# Altium schematic symbol library Schlib1.SchLib: 22 symbols
Pins are listed as number, name and electrical type; pins without a type are passive.

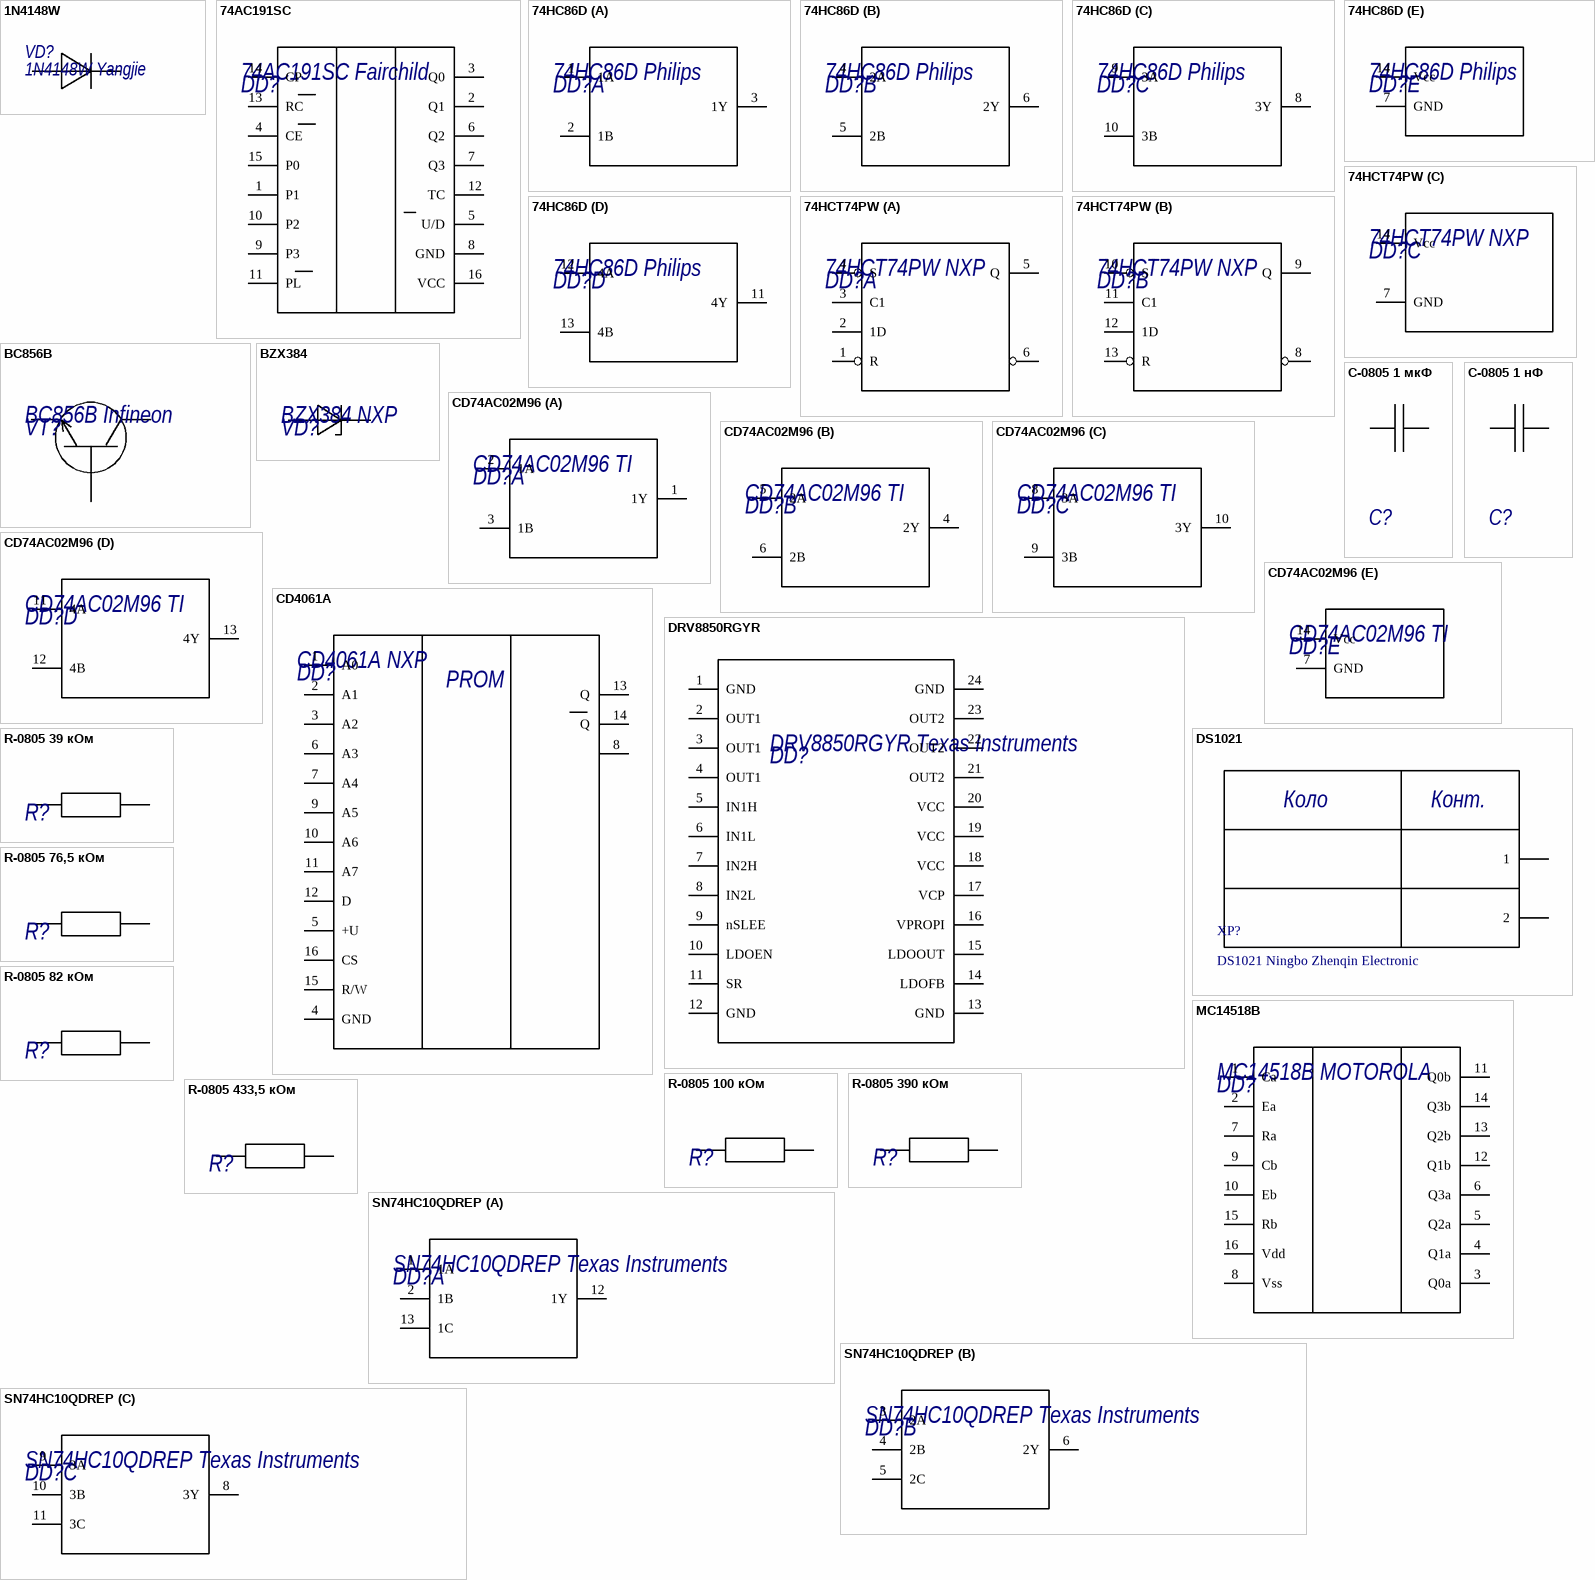
[diagram p0: symbols 1N4148W to SN74HC10QDREP]

## 1N4148W
designator VD?, comment 1N4148W Yangjie
1N4148W; Manufacturer: Yangjie; Name: 1N4148W
footprint SOD-123 (SODFL, 2-Leads, Body 1,55x3,60mm, IPC Medium Density)
pins: 1, 2

## 74AC191SC
designator DD?, comment 74AC191SC Fairchild
Counter; Name: 74AC191SC; Manufacturer: Fairchild
footprint SOIC-16 (SOIC, 16-Leads, Body 10,30x7,50mm, Pitch 1,27mm, IPC Medium Density)
pins: 1 P1, 2 Q1, 3 Q0, 4 CE, 5 U/D, 6 Q2, 7 Q3, 8 GND, 9 P3, 10 P2, 11 PL, 12 TC, 13 RC, 14 CP, 15 P0, 16 VCC

## 74HC86D
designator DD?, comment 74HC86D Philips
OR; Name: 74HC86D; Manufacturer: Philips
footprint SOIC-14 (SOIC, 14-Leads, Body 8,65x3,90mm, Pitch 1,27mm, IPC Medium Density)
part A pins: 1 1A, 2 1B, 3 1Y
part B pins: 4 2A, 5 2B, 6 2Y
part C pins: 8 3Y, 9 3A, 10 3B
part D pins: 11 4Y, 12 4A, 13 4B
part E pins: 7 GND, 14 Vcc

## 74HCT74PW
designator DD?, comment 74HCT74PW NXP
DUAL D FF POSEDG TRIG; Name: 74HCT74PW; Manufacturer: NXP
footprint TSSOP-14 (TSOP, 14-Leads, Body 5,00x4,40mm, Pitch 0,65mm, IPC Medium Density)
part A pins: 1 R, 2 1D, 3 C1, 4 S, 5 Q, 6 Q
part B pins: 8 Q, 9 Q, 10 S, 11 C1, 12 1D, 13 R
part C pins: 7 GND, 14 Vcc

## BC856B
designator VT?, comment BC856B Infineon
Name: BC856B; Manufacturer: Infineon
footprint SOT-23 (SOT23, 3-Leads, Body 2,90x2,30mm, Pitch 0,95mm, IPC Medium Density)
pins: 1, 2, 3

## BZX384
designator VD?, comment BZX384 NXP
Name: BZX384; Manufacturer: NXP
footprint SOD-323 (SODFL, 2-Leads, Body 1,25x2,50mm, IPC Medium Density)
pins: 1, 2

## C-0805 1 мкФ
designator C?, comment С-0805 50 В 1 мкФ 10% X7R Hitano  (value not drawn)
Value: 1 мкФ; Voltage: 50 В; Package: С-0805; Temp_Coef: X7R; Tolerance: 10%; Manufacturer: Hitano
footprint 0805
pins: 1, 2

## C-0805 1 нФ
designator C?, comment С-0805 50 В 1 нФ 5% NP0 Hitano  (value not drawn)
Value: 1 нФ; Voltage: 50 В; Package: С-0805; Temp_Coef: NP0; Tolerance: 5%; Manufacturer: Hitano
footprint 0805
pins: 1, 2

## CD74AC02M96
designator DD?, comment CD74AC02M96 TI
2-INPUT NOR GATE; Name: CD74AC02M96; Manufacturer: TI
footprint SOIC-14 (SOIC, 14-Leads, Body 8,65x3,90mm, Pitch 1,27mm, IPC Medium Density)
part A pins: 1 1Y, 2 1A, 3 1B
part B pins: 4 2Y, 5 2A, 6 2B
part C pins: 8 3A, 9 3B, 10 3Y
part D pins: 11 4A, 12 4B, 13 4Y
part E pins: 7 GND, 14 Vcc

## CD4061A
designator DD?, comment CD4061A NXP
Name: CD4061A; Manufacturer: NXP
footprint DIP16
pins: 1 A0, 2 A1, 3 A2, 4 GND, 5 +U, 6 A3, 7 A4, 8, 9 A5, 10 A6, 11 A7, 12 D, 13 Q, 14 Q, 15 R/W, 16 CS
text: PROM

## DRV8850RGYR
designator DD?, comment DRV8850RGYR Texas Instruments
Name: DRV8850RGYR; Manufacturer: Texas Instruments
pins: 1 GND, 2 OUT1, 3 OUT1, 4 OUT1, 5 IN1H, 6 IN1L, 7 IN2H, 8 IN2L, 9 nSLEE, 10 LDOEN, 11 SR, 12 GND, 13 GND, 14 LDOFB, 15 LDOOUT, 16 VPROPI, 17 VCP, 18 VCC, 19 VCC, 20 VCC, 21 OUT2, 22 OUT2, 23 OUT2, 24 GND

## DS1021
designator XP?, comment DS1021 Ningbo Zhenqin Electronic  (no BOM)
PLS-2_1x2; Manufacturer: Ningbo Zhenqin Electronic; Name: DS1021
footprint PLS-2
pins: 1, 2
text: Коло; Конт.

## MC14518B
designator DD?, comment MC14518B MOTOROLA
Name: MC14518B; Manufacturer: MOTOROLA
footprint SOIC-16 (SOIC, 16-Leads, Body 10,30x7,50mm, Pitch 1,27mm, IPC Medium Density)
pins: 1 Ca, 2 Ea, 3 Q0a, 4 Q1a, 5 Q2a, 6 Q3a, 7 Ra, 8 Vss, 9 Cb, 10 Eb, 11 Q0b, 12 Q1b, 13 Q2b, 14 Q3b, 15 Rb, 16 Vdd

## R-0805 39 кОм
designator R?, comment R-0805 0,125 Вт 39 кОм 5 % Hitano  (value not drawn)
Value: 39 кОм; Tolerance: 5 %; Package: R-0805; Power: 0,125 Вт; Manufacturer: Hitano
footprint 0805
pins: 1, 2

## R-0805 76,5 кОм
designator R?, comment R-0805 0,125 Вт 76,5 кОм 5 % Hitano  (value not drawn)
Tolerance: 5 %; Value: 76,5 кОм; Package: R-0805; Power: 0,125 Вт; Manufacturer: Hitano
footprint 0805
pins: 1, 2

## R-0805 82 кОм
designator R?, comment R-0805 0,125 Вт 82 кОм 5 % Hitano  (value not drawn)
Value: 82 кОм; Tolerance: 5 %; Package: R-0805; Power: 0,125 Вт; Manufacturer: Hitano
footprint 0805
pins: 1, 2

## R-0805 100 кОм
designator R?, comment R-0805 0,125 Вт 100 кОм 5 % Hitano  (value not drawn)
Value: 100 кОм; Tolerance: 5 %; Package: R-0805; Power: 0,125 Вт; Manufacturer: Hitano
footprint 0805
pins: 1, 2

## R-0805 390 кОм
designator R?, comment R-0805 0,125 Вт 390 кОм 5 % Hitano  (value not drawn)
Value: 390 кОм; Tolerance: 5 %; Package: R-0805; Power: 0,125 Вт; Manufacturer: Hitano
footprint 0805
pins: 1, 2

## R-0805 433,5 кОм
designator R?, comment R-0805 0,125 Вт 433,5 кОм 5 % Hitano  (value not drawn)
Tolerance: 5 %; Value: 433,5 кОм; Package: R-0805; Power: 0,125 Вт; Manufacturer: Hitano
footprint 0805
pins: 1, 2

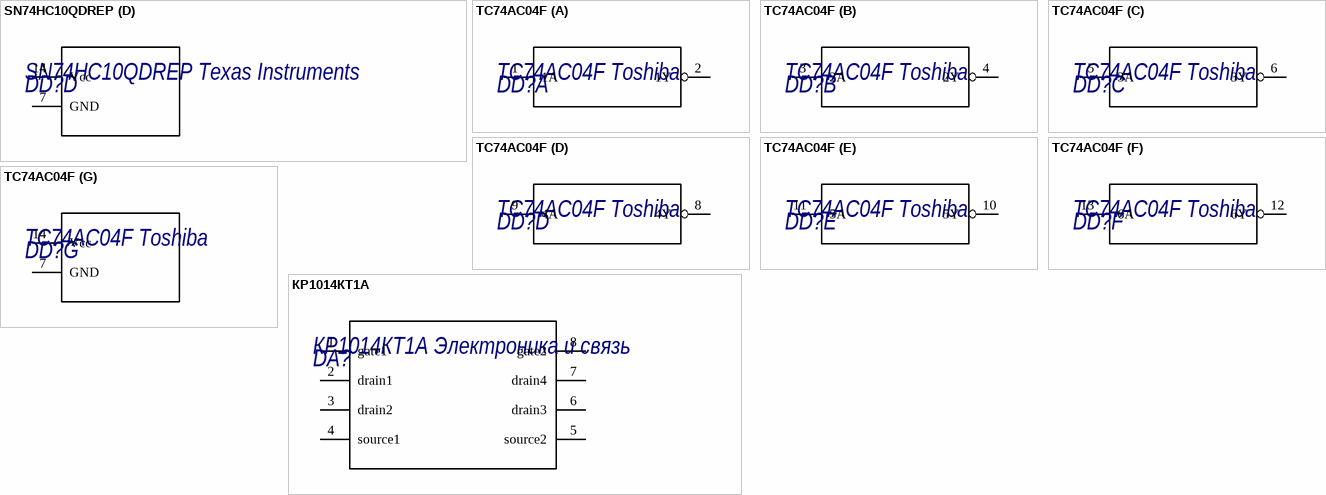
[diagram p1: symbols SN74HC10QDREP to КР1014КТ1А]

## SN74HC10QDREP
designator DD?, comment SN74HC10QDREP Texas Instruments
3-INPUT NAND GATE; Name: SN74HC10QDREP; Manufacturer: Texas Instruments
footprint SOIC-14 (SOIC, 14-Leads, Body 8,65x3,90mm, Pitch 1,27mm, IPC Medium Density)
part A pins: 1 1A, 2 1B, 12 1Y, 13 1C
part B pins: 3 2A, 4 2B, 5 2C, 6 2Y
part C pins: 8 3Y, 9 3A, 10 3B, 11 3C
part D pins: 7 GND, 14 Vcc

## TC74AC04F
designator DD?, comment TC74AC04F Toshiba
NOT; Name: TC74AC04F; Manufacturer: Toshiba
footprint SOIC-14 (SOIC, 14-Leads, Body 8,65x3,90mm, Pitch 1,27mm, IPC Medium Density)
part A pins: 1 1A, 2 1Y
part B pins: 3 2A, 4 2Y
part C pins: 5 3A, 6 3Y
part D pins: 8 4Y, 9 4A
part E pins: 10 5Y, 11 5A
part F pins: 12 6Y, 13 6A
part G pins: 7 GND, 14 Vcc

## КР1014КТ1А
designator DA?, comment КР1014КТ1А Электроника и связь
Name: КР1014КТ1А; Manufacturer: Электроника и связь
footprint DIP8
pins: 1 gate1, 2 drain1, 3 drain2, 4 source1, 5 source2, 6 drain3, 7 drain4, 8 gate2